# Altium footprint library Footprint.PcbLib: 1 footprints
Each footprint in its own frame and in the unit in brackets; x right, y up, seen from the top. Pads: shape width x height; smd on the part's side, far side on the other; paste and mask are expansions set on the pad; w line width, h text height; cw(c..) or ccw(c..) is an arc to the next point about the centre after c.
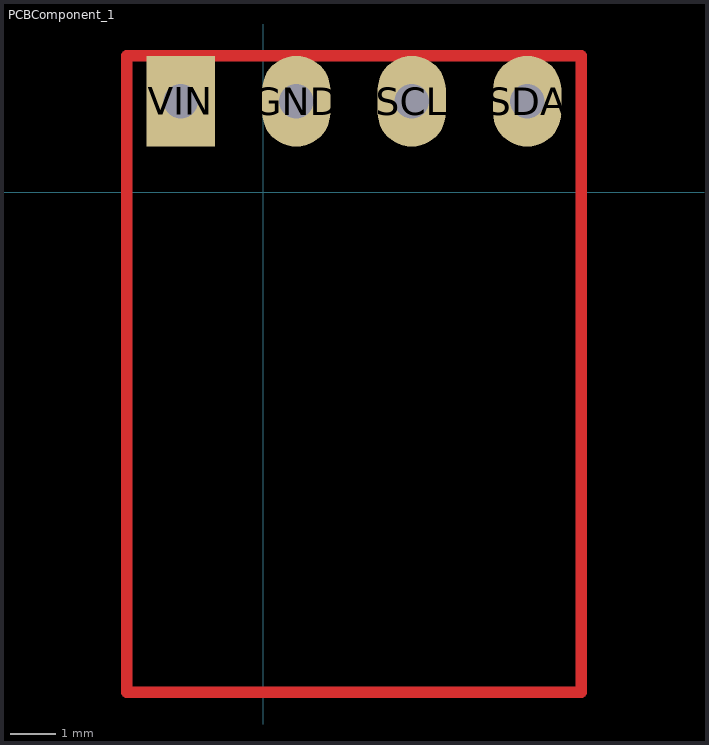
[diagram p0: the footprint, top view; thin cyan lines are the x and y axes]

## PCBComponent_1 [mm]
pads (4):
  oval 1.5x2 hole 0.762: GND(0.73,2) SCL(3.27,2) SDA(5.81,2)
  rect 1.5x2 hole 0.762: VIN(-1.81,2)
Top Layer:
  lines w0.254: -3,-11 7,-11 7,3 -3,3 -3,-11
3D body "bmp180.SLDPRT": height 2.66, standoff 0, extent -3.225,-10.65 7.225,2.65